# Altium footprint library 2.07-SOT封装.PcbLib: 39 footprints (part 1 of 3)
Each footprint in its own frame and in the unit in brackets; x right, y up, seen from the top. Pads: shape width x height; smd on the part's side, far side on the other; paste and mask are expansions set on the pad; w line width, h text height; cw(c..) or ccw(c..) is an arc to the next point about the centre after c.
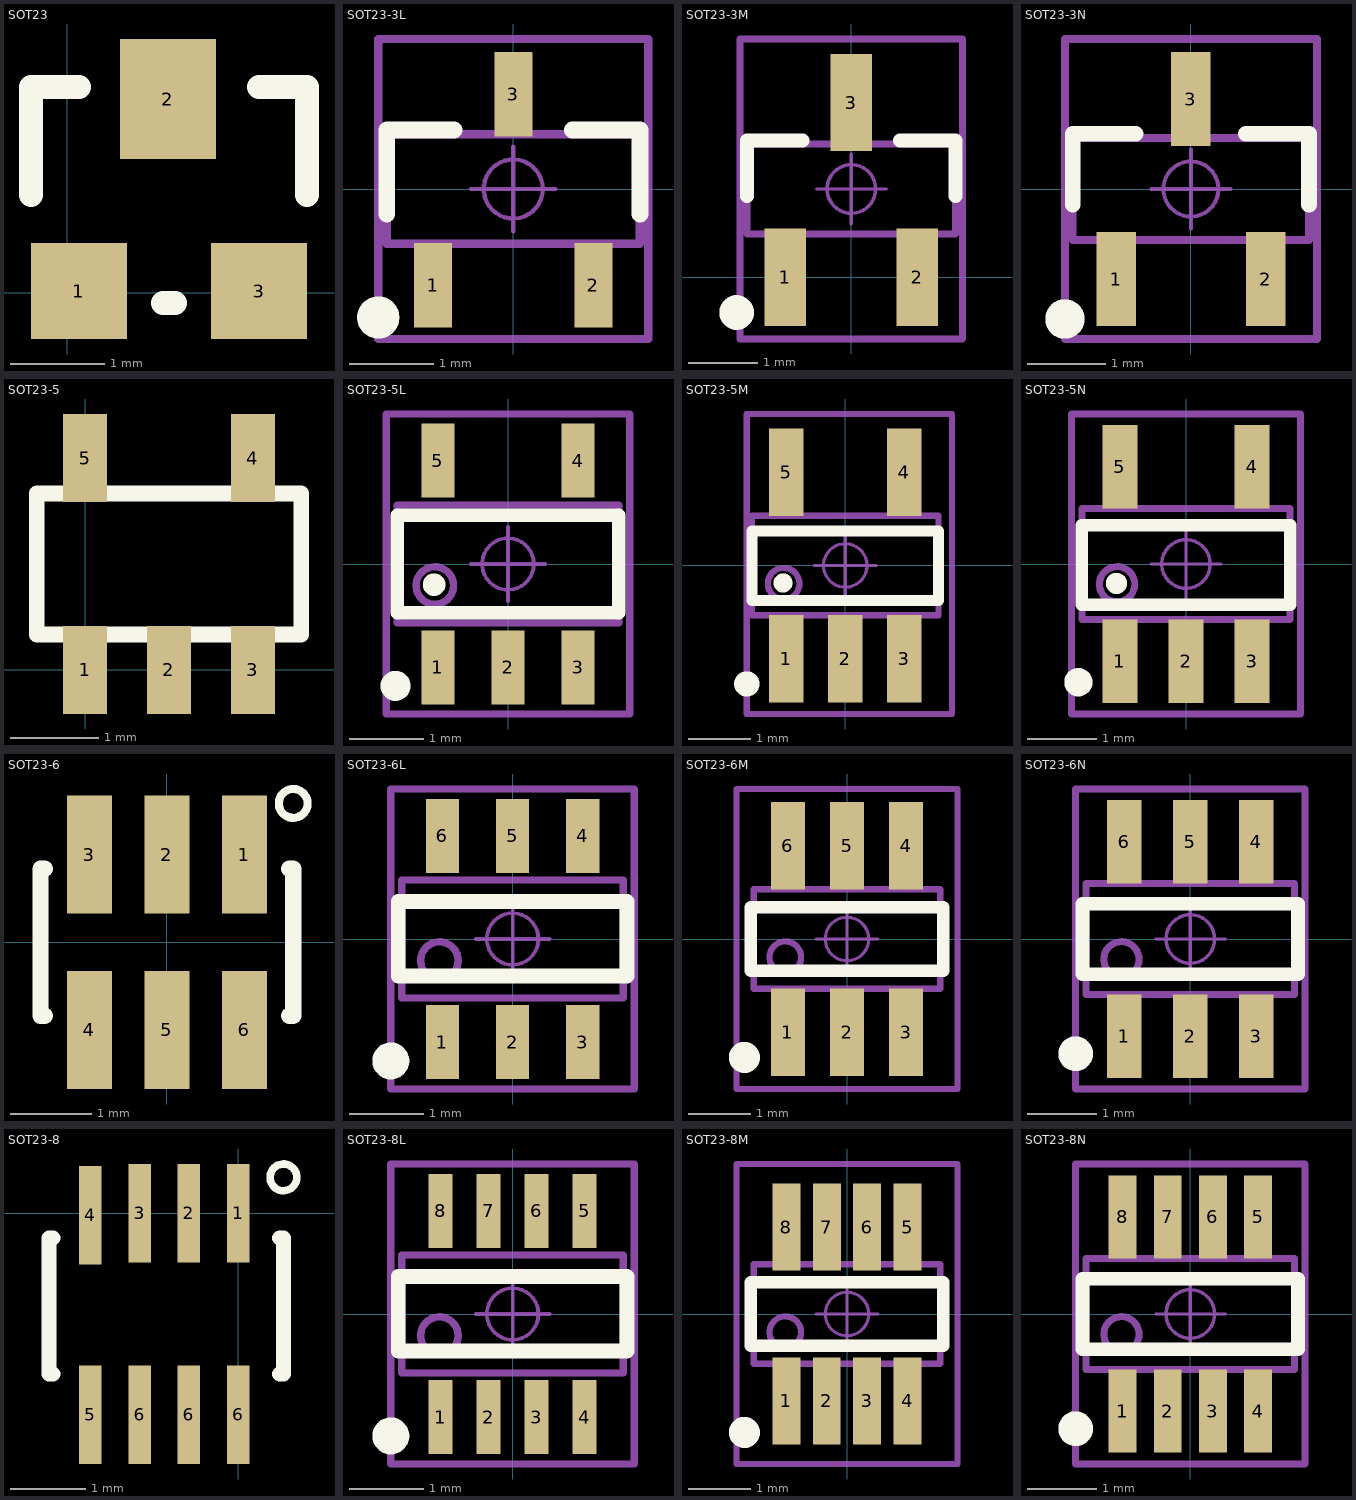
[diagram p0: the footprints below, top view; thin cyan lines are the x and y axes]

## SOT23 [mil] "封装库来自淘宝卖家 ID：黄晶宝石"
pads (3):
  rect 40x40 smd: 1(4.88,0.63) 3(79.88,0.63)
  rect 40x50 smd: 2(41.88,80.63)
Top Overlay:
  lines w10: -15.12,40.63 -15.12,85.63 4.88,85.63 ; 39.88,-4.37 44.88,-4.37 ; 79.88,85.63 99.88,85.63 99.88,40.63
3D body "SOT-23-3.STEP": height 47.24, standoff 0, extent -14.87,-11.02 99.3,99.22

## SOT23-3L [mm] "3x1.3x1mm(长宽高)    封装库来自淘宝卖家 ID：黄晶宝石"
height 1.1
pads (3):
  rect 0.45x1 smd: 1(-0.95,-1.143) 2(0.95,-1.143) 3(0,1.125)
Top Overlay:
  circle w0.25: c-1.6,-1.524 r0.125
  lines w0.2: -1.5,-0.3 -1.5,0.7 -0.7,0.7 ; 0.7,0.7 1.5,0.7 1.5,-0.3
Mechanical 13:
  lines w0.1: -1.5,-0.65 1.5,-0.65 1.5,0.65 -1.5,0.65 -1.5,-0.65
Mechanical 15:
  circle w0.05: c0,0 r0.35
  lines w0.05: -0.5,0 0.5,0 ; 0,-0.5 0,0.5
  lines w0.1: -1.6,-1.778 1.6,-1.778 1.6,1.778 -1.6,1.778 -1.6,-1.778
3D body "SOT23-3.STEP": height 1.05, standoff 0, extent -1.5,-1.2 1.5,1.2

## SOT23-3M [mm] "3x1.3x1mm(长宽高)    封装库来自淘宝卖家 ID：黄晶宝石"
height 1.1
pads (3):
  rect 0.6x1.4 smd: 1(-0.95,0) 2(0.95,0) 3(0,2.514)
Top Overlay:
  circle w0.25: c-1.651,-0.508 r0.125
  lines w0.2: -1.5,1.17 -1.5,1.97 -0.7,1.97 ; 0.7,1.97 1.5,1.97 1.5,1.17
Mechanical 13:
  lines w0.1: -1.5,0.62 1.5,0.62 1.5,1.92 -1.5,1.92 -1.5,0.62
Mechanical 15:
  circle w0.05: c0,1.27 r0.35
  lines w0.05: -0.5,1.27 0.5,1.27 ; 0,0.77 0,1.77
  lines w0.1: -1.6,-0.889 1.6,-0.889 1.6,3.429 -1.6,3.429 -1.6,-0.889
3D body "SOT23-3.STEP": height 1.05, standoff 0, extent -1.5,0.07 1.5,2.47

## SOT23-3N [mm] "3x1.3x1mm(长宽高)    封装库来自淘宝卖家 ID：黄晶宝石"
height 1.1
pads (3):
  rect 0.5x1.2 smd: 1(-0.95,-1.143) 2(0.95,-1.143) 3(0,1.143)
Top Overlay:
  circle w0.25: c-1.6,-1.651 r0.125
  lines w0.2: -1.501,-0.2 -1.501,0.7 -0.701,0.7 ; 0.699,0.7 1.499,0.7 1.499,-0.2
Mechanical 13:
  lines w0.1: -1.5,-0.65 -1.5,0.65 1.5,0.65 1.5,-0.65 -1.5,-0.65
Mechanical 15:
  circle w0.05: c0,0 r0.35
  lines w0.05: -0.5,0 0.5,0 ; 0,-0.5 0,0.5
  lines w0.1: -1.6,-1.905 -1.6,1.905 1.6,1.905 1.6,-1.905 -1.6,-1.905
3D body "SOT23-3.STEP": height 1.05, standoff 0, extent -1.5,-1.2 1.5,1.2

## SOT23-5 [mm] "封装库来自淘宝卖家 ID：黄晶宝石"
pads (5):
  rect 0.5x1 smd: 1(0,0) 2(0.95,0) 3(1.9,0) 4(1.9,2.4) 5(0,2.4)
Top Overlay:
  lines w0.178: -0.55,0.4 2.45,0.4 2.45,2 -0.55,2 -0.55,0.4
3D body "User Library-SOT23-5.STEP": height 1.09, standoff -0.01, extent -0.5,-0.201 2.399,2.599

## SOT23-5L [mm] "3x1.6x1.1mm(长宽高) 封装库来自淘宝卖家 ID：黄晶宝石"
pads (5):
  rect 0.45x1 smd: 1(-0.95,-1.4) 2(0,-1.4) 3(0.95,-1.4) 4(0.95,1.4) 5(-0.95,1.4)
Top Overlay:
  circle w0.254: c-1.001,-0.279 r0.025
  circle w0.254: c-1.524,-1.651 r0.076
  lines w0.178: -1.5,-0.66 1.5,-0.66 1.5,0.66 -1.5,0.66 -1.5,-0.66
Mechanical 13:
  circle w0.1: c-0.992,-0.292 r0.254
  lines w0.1: -1.5,-0.8 -1.5,0.8 1.5,0.8 1.5,-0.8 -1.5,-0.8
Mechanical 15:
  circle w0.05: c0,0 r0.35
  lines w0.05: -0.5,0 0.5,0 ; 0,-0.5 0,0.5
  lines w0.1: -1.651,-2.032 -1.651,2.032 1.651,2.032 1.651,-2.032 -1.651,-2.032
3D body "SOT23-5.STEP": height 1.15, standoff -0.03, extent -1.5,-1.403 1.5,1.403

## SOT23-5M [mm] "3x1.6x1.1mm(长宽高) 封装库来自淘宝卖家 ID：黄晶宝石"
pads (5):
  rect 0.55x1.4 smd: 1(-0.95,-1.5) 2(0,-1.5) 3(0.95,-1.5) 4(0.95,1.5) 5(-0.95,1.5)
Top Overlay:
  circle w0.254: c-1.001,-0.281 r0.025
  circle w0.254: c-1.585,-1.905 r0.076
  lines w0.178: -1.5,-0.56 -1.5,0.557 1.5,0.557 1.5,-0.56 -1.5,-0.56
Mechanical 13:
  circle w0.1: c-0.992,-0.292 r0.254
  lines w0.1: -1.5,-0.8 1.5,-0.8 1.5,0.8 -1.5,0.8 -1.5,-0.8
Mechanical 15:
  circle w0.05: c0,0 r0.35
  lines w0.05: -0.5,0 0.5,0 ; 0,-0.5 0,0.5
  lines w0.1: -1.585,-2.389 1.717,-2.389 1.717,2.437 -1.585,2.437 -1.585,-2.389
3D body "SOT23-5.STEP": height 1.15, standoff -0.03, extent -1.5,-1.403 1.5,1.403

## SOT23-5N [mm] "3x1.6x1.1mm(长宽高)  封装库来自淘宝卖家 ID：黄晶宝石"
pads (5):
  rect 0.5x1.2 smd: 1(-0.95,-1.4) 2(0,-1.4) 3(0.95,-1.4) 4(0.95,1.4) 5(-0.95,1.4)
Top Overlay:
  circle w0.254: c-1.001,-0.279 r0.025
  circle w0.254: c-1.549,-1.702 r0.076
  lines w0.178: -1.5,-0.584 1.5,-0.584 1.5,0.559 -1.5,0.559 -1.5,-0.584
Mechanical 13:
  circle w0.1: c-0.992,-0.292 r0.254
  lines w0.1: -1.5,-0.8 1.5,-0.8 1.5,0.8 -1.5,0.8 -1.5,-0.8
Mechanical 15:
  circle w0.05: c0,0 r0.35
  lines w0.05: -0.5,0 0.5,0 ; 0,-0.5 0,0.5
  lines w0.1: -1.651,-2.159 -1.651,2.159 1.651,2.159 1.651,-2.159 -1.651,-2.159
3D body "SOT23-5.STEP": height 1.15, standoff -0.03, extent -1.5,-1.403 1.5,1.403

## SOT23-6 [mm] "SOT-23/SC-74A; 5 Leads; Body 3.1 x 3 mm, inc. leads (LxW max)"
height 1.45
pads (6):
  rect 0.55x1.45 smd: 1(0.95,1.075) 2(0,1.075) 3(-0.95,1.075) 4(-0.95,-1.075) 5(0,-1.075) 6(0.95,-1.075)
Top Overlay:
  circle w0.1: c1.549,1.702 r0.177
  lines w0.2: -1.5,-0.9 -1.55,-0.9 -1.55,0.9 -1.5,0.9 ; 1.5,-0.9 1.55,-0.9 1.55,0.9 1.5,0.9
3D body "sot236.step": height 1, standoff 0, extent -1.435,-1.195 1.485,1.145

## SOT23-6L [mm] "3x1.6x1.1mm(长宽高) 封装库来自淘宝卖家 ID：黄晶宝石"
height 1.45
pads (6):
  rect 0.45x1 smd: 1(-0.95,-1.397) 2(0,-1.397) 3(0.95,-1.397) 4(0.95,1.397) 5(0,1.397) 6(-0.95,1.397)
Top Overlay:
  circle w0.25: c-1.65,-1.651 r0.125
  lines w0.2: -1.55,-0.5 -1.55,0.508 1.55,0.508 1.55,-0.5 -1.55,-0.5
Mechanical 13:
  circle w0.1: c-0.992,-0.292 r0.254
  lines w0.1: -1.5,-0.8 1.5,-0.8 1.5,0.8 -1.5,0.8 -1.5,-0.8
Mechanical 15:
  circle w0.05: c0,0 r0.35
  lines w0.05: -0.5,0 0.5,0 ; 0,-0.5 0,0.5
  lines w0.1: -1.65,-2.032 1.65,-2.032 1.65,2.032 -1.65,2.032 -1.65,-2.032
3D body "SOT23-6.STEP": height 1.15, standoff -0.03, extent -1.5,-1.404 1.5,1.403

## SOT23-6M [mm] "3x1.6x1.1mm(长宽高)"
height 1.45
pads (6):
  rect 0.55x1.4 smd: 1(-0.95,-1.5) 2(0,-1.5) 3(0.95,-1.5) 4(0.95,1.5) 5(0,1.5) 6(-0.95,1.5)
Top Overlay:
  circle w0.25: c-1.651,-1.905 r0.125
  lines w0.2: -1.55,-0.508 -1.55,0.508 1.55,0.508 1.55,-0.508 -1.55,-0.508
Mechanical 13:
  circle w0.1: c-0.992,-0.292 r0.254
  lines w0.1: -1.5,-0.8 1.5,-0.8 1.5,0.8 -1.5,0.8 -1.5,-0.8
Mechanical 15:
  circle w0.05: c0,0 r0.35
  lines w0.05: -0.5,0 0.5,0 ; 0,-0.5 0,0.5
  lines w0.1: -1.778,-2.413 1.778,-2.413 1.778,2.413 -1.778,2.413 -1.778,-2.413
3D body "SOT23-6.STEP": height 1.15, standoff -0.03, extent -1.5,-1.403 1.5,1.403

## SOT23-6N [mm] "3x1.6x1.1mm(长宽高)"
height 1.45
pads (6):
  rect 0.5x1.2 smd: 1(-0.95,-1.4) 2(0,-1.4) 3(0.95,-1.4) 4(0.95,1.4) 5(0,1.4) 6(-0.95,1.4)
Top Overlay:
  circle w0.25: c-1.651,-1.651 r0.125
  lines w0.2: -1.55,-0.508 1.55,-0.508 1.55,0.508 -1.55,0.508 -1.55,-0.508
Mechanical 13:
  circle w0.1: c-0.992,-0.292 r0.254
  lines w0.1: -1.5,-0.8 -1.5,0.8 1.5,0.8 1.5,-0.8 -1.5,-0.8
Mechanical 15:
  circle w0.05: c0,0 r0.35
  lines w0.05: -0.5,0 0.5,0 ; 0,-0.5 0,0.5
  lines w0.1: -1.651,-2.159 -1.651,2.159 1.651,2.159 1.651,-2.159 -1.651,-2.159
3D body "SOT23-6.STEP": height 1.15, standoff -0.03, extent -1.5,-1.403 1.5,1.403

## SOT23-8 [mm]
pads (8):
  rect 0.3x1.3 smd: 1(0,0) 2(-0.652,0) 3(-1.304,0) 4(-1.956,-0.025) 5(-1.956,-2.667) 6(-1.304,-2.667) 6(-0.652,-2.667) 6(0,-2.667)
Top Overlay:
  circle w0.1: c0.599,0.474 r0.177
  lines w0.2: -2.45,-2.127 -2.5,-2.127 -2.5,-0.327 -2.45,-0.327 ; 0.55,-2.127 0.6,-2.127 0.6,-0.327 0.55,-0.327
3D body "User Library-TSOT-23-8.STEP": height 1, standoff 0, extent -2.415,-2.696 0.485,0.104

## SOT23-8L [mm] "3x1.6x1.1mm(长宽高)"
height 1.45
pads (8):
  rect 0.325x1 smd: 1(-0.975,-1.397) 2(-0.325,-1.397) 3(0.325,-1.397) 4(0.975,-1.397) 5(0.975,1.397) 6(0.325,1.397) 7(-0.325,1.397) 8(-0.975,1.397)
Top Overlay:
  circle w0.25: c-1.65,-1.651 r0.125
  lines w0.2: -1.55,-0.5 -1.55,0.508 1.55,0.508 1.55,-0.5 -1.55,-0.5
Mechanical 13:
  circle w0.1: c-0.992,-0.292 r0.254
  lines w0.1: -1.5,-0.8 1.5,-0.8 1.5,0.8 -1.5,0.8 -1.5,-0.8
Mechanical 15:
  circle w0.05: c0,0 r0.35
  lines w0.05: -0.5,0 0.5,0 ; 0,-0.5 0,0.5
  lines w0.1: -1.65,-2.032 1.65,-2.032 1.65,2.032 -1.65,2.032 -1.65,-2.032
3D body "SOT23-8.STEP": height 1.15, standoff 0, extent -1.5,-1.403 1.5,1.403

## SOT23-8M [mm] "3x1.6x1.1mm(长宽高)"
height 1.45
pads (8):
  rect 0.45x1.4 smd: 1(-0.975,-1.397) 3(0.325,-1.397) 4(0.975,-1.397) 5(0.975,1.397) 6(0.325,1.397) 7(-0.325,1.397) 8(-0.975,1.397)
  rect 0.44x1.4 smd: 2(-0.325,-1.397)
Top Overlay:
  circle w0.25: c-1.651,-1.905 r0.125
  lines w0.2: -1.55,-0.508 1.55,-0.508 1.55,0.508 -1.55,0.508 -1.55,-0.508
Mechanical 13:
  circle w0.1: c-0.992,-0.292 r0.254
  lines w0.1: -1.5,-0.8 -1.5,0.8 1.5,0.8 1.5,-0.8 -1.5,-0.8
Mechanical 15:
  circle w0.05: c0,0 r0.35
  lines w0.05: -0.5,0 0.5,0 ; 0,-0.5 0,0.5
  lines w0.1: -1.778,-2.413 -1.778,2.413 1.778,2.413 1.778,-2.413 -1.778,-2.413
3D body "SOT23-8.STEP": height 1.15, standoff 0, extent -1.5,-1.403 1.5,1.403

## SOT23-8N [mm] "3x1.6x1.1mm(长宽高)"
height 1.45
pads (8):
  rect 0.4x1.2 smd: 1(-0.975,-1.397) 2(-0.325,-1.397) 3(0.325,-1.397) 4(0.975,-1.397) 5(0.975,1.397) 6(0.325,1.397) 7(-0.325,1.397) 8(-0.975,1.397)
Top Overlay:
  circle w0.25: c-1.651,-1.651 r0.125
  lines w0.2: -1.55,-0.508 -1.55,0.508 1.55,0.508 1.55,-0.508 -1.55,-0.508
Mechanical 13:
  circle w0.1: c-0.992,-0.292 r0.254
  lines w0.1: -1.5,-0.8 1.5,-0.8 1.5,0.8 -1.5,0.8 -1.5,-0.8
Mechanical 15:
  circle w0.05: c0,0 r0.35
  lines w0.05: -0.5,0 0.5,0 ; 0,-0.5 0,0.5
  lines w0.1: -1.651,-2.159 1.651,-2.159 1.651,2.159 -1.651,2.159 -1.651,-2.159
3D body "SOT23-8.STEP": height 1.15, standoff 0, extent -1.5,-1.403 1.5,1.403